# Altium footprint library NT3H2211W0FHKH.PcbLib: 2 footprints
Each footprint in its own frame and in the unit in brackets; x right, y up, seen from the top. Pads: shape width x height; smd on the part's side, far side on the other; paste and mask are expansions set on the pad; w line width, h text height; cw(c..) or ccw(c..) is an arc to the next point about the centre after c.
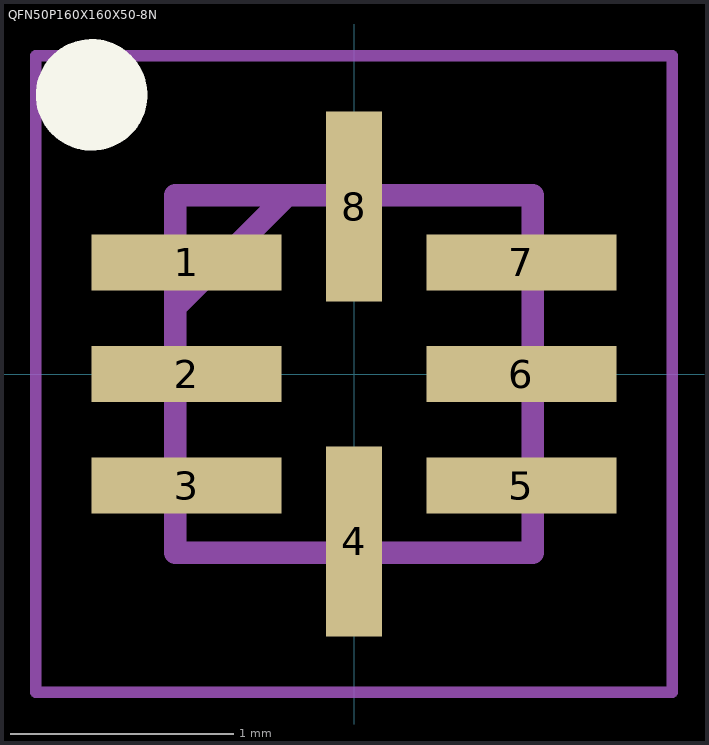
[diagram p0: the footprints below, top view; thin cyan lines are the x and y axes]

## PCBComponent_1 [mm]

## QFN50P160X160X50-8N [mm]
pads (8):
  rect 0.85x0.25 smd: 1(-0.75,0.5) 2(-0.75,0) 3(-0.75,-0.5) 5(0.75,-0.5) 6(0.75,0) 7(0.75,0.5)
  rect 0.25x0.85 smd: 4(0,-0.75) 8(0,0.75)
Top Overlay:
  circle w0.25: c-1.175,1.25 r0.125
Mechanical 13:
  lines w0.1: -0.8,0.3 -0.3,0.8 ; -0.8,-0.8 -0.8,0.8 0.8,0.8 0.8,-0.8 -0.8,-0.8
Mechanical 15:
  lines w0.05: -1.425,-1.425 -1.425,1.425 1.425,1.425 1.425,-1.425 -1.425,-1.425
3D body "NT3H2111W0FHKH.stp": height 0.5, standoff 0, extent -0.85,-0.85 0.85,0.85